# EAGLE library part R_ARRAY (library Misaka-RCL)
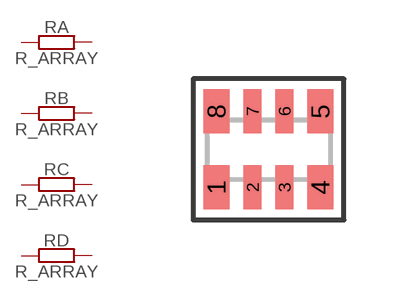
[diagram p0: symbol with the pads of ARRAY_0603; footprint ARRAY_0603]

Designator prefix R; gates A=R B=R C=R D=R

## R_ARRAY_4X0603  [ARRAY_0603]
1  A:1  pas
2  B:1  pas
3  C:1  pas
4  D:1  pas
5  D:2  pas
6  C:2  pas
7  B:2  pas
8  A:2  pas

## Footprint ARRAY_0603 (pad centres in mm)
smd 0.65 x 1.1: 1 -1.3,-0.95; 4 1.3,-0.95; 5 1.3,0.95; 8 -1.3,0.95
smd 0.45 x 1.1: 2 -0.4,-0.95; 3 0.4,-0.95; 6 0.4,0.95; 7 -0.4,0.95